# EAGLE library part SAA1064 (library Eagle-JeeLabs)
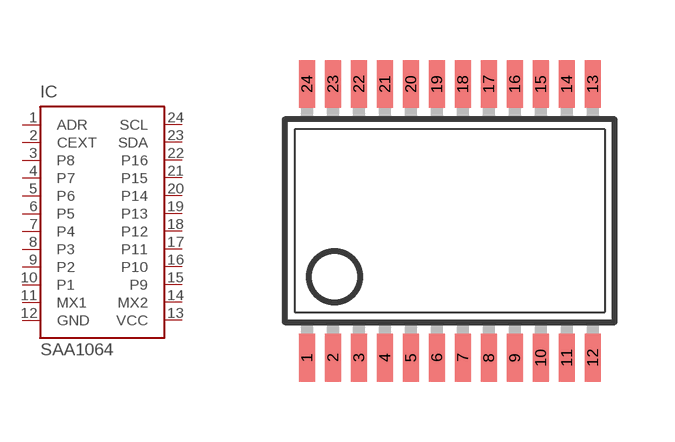
[diagram p5: symbol with the pads of SSOP24; footprint SSOP24]

Designator prefix IC

## SAA1064  [SSOP24]
1  ADR
2  CEXT
3  P8
4  P7
5  P6
6  P5
7  P4
8  P3
9  P2
10  P1
11  MX1
12  GND  pwr
13  VCC  pwr
14  MX2
15  P9
16  P10
17  P11
18  P12
19  P13
20  P14
21  P15
22  P16
23  SDA
24  SCL

## Footprint SSOP24 (pad centres in mm)
Small Shrink Outline Package SOT340-1 / JEDEC MO-150AG
smd 0.4 x 1.2: 1 -3.575,-3.42; 2 -2.925,-3.42; 3 -2.275,-3.42; 4 -1.625,-3.42; 5 -0.975,-3.42; 6 -0.325,-3.42; 7 0.325,-3.42; 8 0.975,-3.42; 9 1.625,-3.42; 10 2.275,-3.42; 11 2.925,-3.42; 12 3.575,-3.42; 13 3.575,3.42; 14 2.925,3.42; 15 2.275,3.42; 16 1.625,3.42; 17 0.975,3.42; 18 0.325,3.42; 19 -0.325,3.42; 20 -0.975,3.42; 21 -1.625,3.42; 22 -2.275,3.42; 23 -2.925,3.42; 24 -3.575,3.42